# Altium integrated library OPL_Discrete_Semiconductor.IntLib: 24 symbols
Pins are listed as number, name and electrical type; pins without a type are passive.

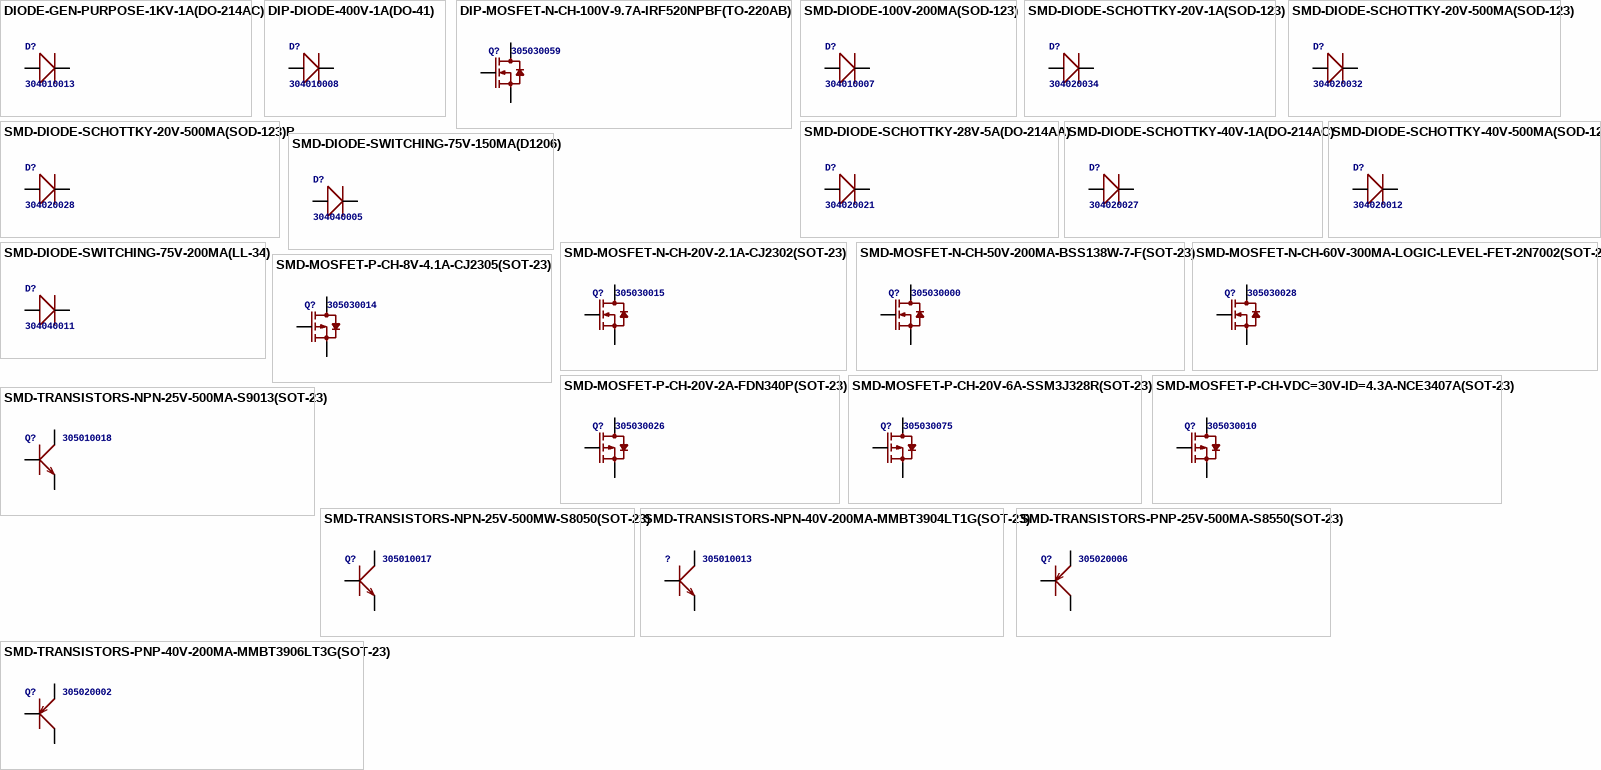
[diagram p0: symbols DIODE-GEN-PURPOSE-1KV-1A(DO-214AC) to SMD-TRANSISTORS-PNP-40V-200MA-MMBT3906LT3G(SOT-23)]

## DIODE-GEN-PURPOSE-1KV-1A(DO-214AC)
designator D?, comment 304010013
MPN: 1N4007
footprint DO-214AC
pins: 1 +, 2 -

## DIP-DIODE-400V-1A(DO-41)
designator D?, comment 304010008
MPN: 1N4004
footprint DO-41
pins: 1 +, 2 -

## DIP-MOSFET-N-CH-100V-9.7A-IRF520NPBF(TO-220AB)
designator Q?, comment 305030059
MPN: IRF520NPBF
footprint TO-220
pins: 1 G, 2 HEAT D, 3 S

## SMD-DIODE-100V-200MA(SOD-123)
designator D?, comment 304010007
MPN: MMSD4148
footprint SOD-123
pins: +, -

## SMD-DIODE-SCHOTTKY-20V-1A(SOD-123)
designator D?, comment 304020034
MPN: B5819W
footprint SOD-123
pins: +, -

## SMD-DIODE-SCHOTTKY-20V-500MA(SOD-123)
designator D?, comment 304020032
MPN: SS0520-7-F
footprint SOD-123
pins: +, -

## SMD-DIODE-SCHOTTKY-20V-500MA(SOD-123)P
designator D?, comment 304020028
MPN: MBR0520LT1G
footprint SOD-123
pins: +, -

## SMD-DIODE-SCHOTTKY-28V-5A(DO-214AA)
designator D?, comment 304020021
MPN: SS54B
footprint DO-214AA
pins: +, -

## SMD-DIODE-SCHOTTKY-40V-1A(DO-214AC)
designator D?, comment 304020027
MPN: 1N5819
footprint DO-214AC
pins: 1 +, 2 -

## SMD-DIODE-SCHOTTKY-40V-500MA(SOD-123)
designator D?, comment 304020012
MPN: B0540W
footprint SOD-123
pins: +, -

## SMD-DIODE-SWITCHING-75V-150MA(D1206)
designator D?, comment 304040005
MPN: CD1206-S01575
footprint LED-1206
pins: +, -

## SMD-DIODE-SWITCHING-75V-200MA(LL-34)
designator D?, comment 304040011
MPN: LL4148ST
footprint LL-34
pins: A +, C -

## SMD-MOSFET-N-CH-20V-2.1A-CJ2302(SOT-23)
designator Q?, comment 305030015
MPN: CJ2302
footprint SOT-23
pins: 1 G, 2 S, 3 D

## SMD-MOSFET-N-CH-50V-200MA-BSS138W-7-F(SOT-23)
designator Q?, comment 305030000
MPN: BSS138W-7-F
footprint SOT-23
pins: 1 G, 2 S, 3 D

## SMD-MOSFET-N-CH-60V-300MA-LOGIC-LEVEL-FET-2N7002(SOT-23)
designator Q?, comment 305030028
MPN: 2N7002,215
footprint SOT-23
pins: 1 G, 2 S, 3 D

## SMD-MOSFET-P-CH-8V-4.1A-CJ2305(SOT-23)
designator Q?, comment 305030014
MPN: CJ2305
footprint SOT-23
pins: 1 G, 2 S, 3 D

## SMD-MOSFET-P-CH-20V-2A-FDN340P(SOT-23)
designator Q?, comment 305030026
MPN: FDN340P
footprint SOT-23
pins: 1 G, 2 S, 3 D

## SMD-MOSFET-P-CH-20V-6A-SSM3J328R(SOT-23)
designator Q?, comment 305030075
MPN: SSM3J328R,LF
footprint SOT-23
pins: 1 G, 2 S, 3 D

## SMD-MOSFET-P-CH-VDC=30V-ID=4.3A-NCE3407A(SOT-23)
designator Q?, comment 305030010
MPN: NCE3407A
footprint SOT-23
pins: 1 G, 2 S, 3 D

## SMD-TRANSISTORS-NPN-25V-500MA-S9013(SOT-23)
designator Q?, comment 305010018
MPN: S9013
footprint SOT-23
pins: 1 B, 2 E, 3 C

## SMD-TRANSISTORS-NPN-25V-500MW-S8050(SOT-23)
designator Q?, comment 305010017
MPN: S8050
footprint SOT-23
pins: 1 B, 2 E, 3 C

## SMD-TRANSISTORS-NPN-40V-200MA-MMBT3904LT1G(SOT-23)
designator ?, comment 305010013
MPN: MMBT3904LT1G
footprint SOT-23
pins: 1 B, 2 E, 3 C

## SMD-TRANSISTORS-PNP-25V-500MA-S8550(SOT-23)
designator Q?, comment 305020006
MPN: S8550
footprint SOT-23
pins: 1 B, 2 E, 3 C

## SMD-TRANSISTORS-PNP-40V-200MA-MMBT3906LT3G(SOT-23)
designator Q?, comment 305020002
MPN: MMBT3906LT3G
footprint SOT-23
pins: 1 B, 2 E, 3 C